# EAGLE library part ROCKETNET-CONNECTOR (library 16-pin-rocketnet)
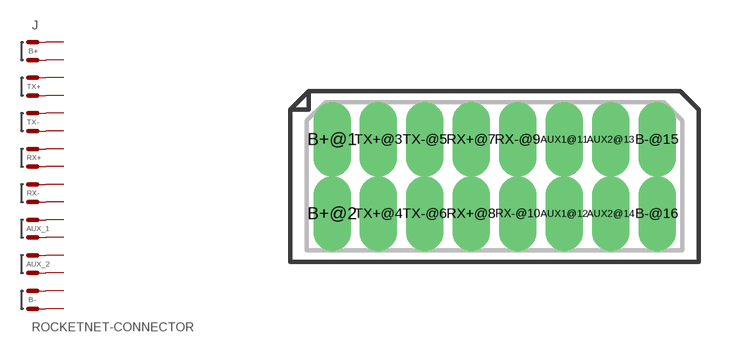
[diagram p0: symbol with the pads of ROCKETBUS_ROCKETBUS-RECEPTACLE; footprint ROCKETBUS_ROCKETBUS-RECEPTACLE]

Designator prefix J

## ROCKETNET-CONNECTOR  [ROCKETBUS_ROCKETBUS-RECEPTACLE]
AUX1@11  AUX_1  pas
AUX1@12  AUX_1  pas
AUX2@13  AUX_2  pas
AUX2@14  AUX_2  pas
B+@1  B+  pwr
B+@2  B+  pwr
B-@15  B-  pwr
B-@16  B-  pwr
RX+@7  RX+  pas
RX+@8  RX+  pas
RX-@9  RX-  pas
RX-@10  RX-  pas
TX+@3  TX+  pas
TX+@4  TX+  pas
TX-@5  TX-  pas
TX-@6  TX-  pas

## Footprint ROCKETBUS_ROCKETBUS-RECEPTACLE (pad centres in mm)
JST corp 16X-JED connector
drill 0.5 pad 0.9 long: AUX1@11 1.875,1; AUX1@12 1.875,-1; AUX2@13 3.125,1; AUX2@14 3.125,-1; B+@1 -4.375,1; B+@2 -4.375,-1; B-@15 4.375,1; B-@16 4.375,-1; RX+@7 -0.625,1; RX+@8 -0.625,-1; RX-@9 0.625,1; RX-@10 0.625,-1; TX+@3 -3.125,1; TX+@4 -3.125,-1; TX-@5 -1.875,1; TX-@6 -1.875,-1